# Altium footprint library PCB - CONNECTOR - FCI - FCI 06-381-6PIN.PCBLIB: 1 footprints
Each footprint in its own frame and in the unit in brackets; x right, y up, seen from the top. Pads: shape width x height; smd on the part's side, far side on the other; paste and mask are expansions set on the pad; w line width, h text height; cw(c..) or ccw(c..) is an arc to the next point about the centre after c.
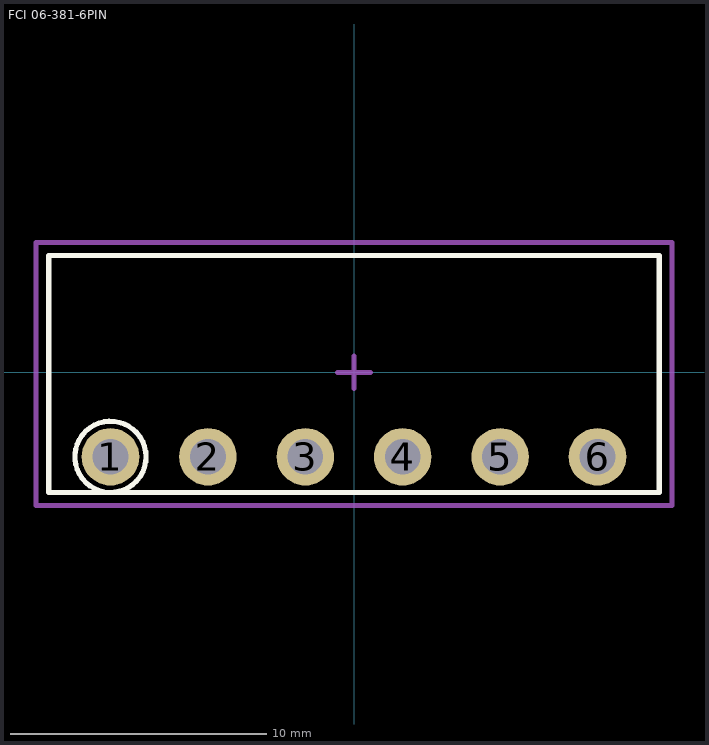
[diagram p0: the footprint, top view; thin cyan lines are the x and y axes]

## FCI 06-381-6PIN [mm] "FCI Pluggable Terminal Block"
height 7
pads (6):
  round 2.25 hole 1.4: 1(-9.525,-3.302) 2(-5.715,-3.302) 3(-1.905,-3.302) 4(1.905,-3.302) 5(5.715,-3.302) 6(9.525,-3.302)
Top Overlay:
  circle w0.2: c-9.525,-3.302 r1.393
  lines w0.2: -11.938,-4.699 11.938,-4.699 11.938,4.572 -11.938,4.572 -11.938,-4.699
Mechanical 15:
  lines w0.2: -0.635,0 0.635,0 ; 0,-0.635 0,0.635 ; -12.446,-5.207 12.446,-5.207 12.446,5.08 -12.446,5.08 -12.446,-5.207
3D body "FCI 06-381 6Pos.STEP": height 7.6, standoff -3.52, extent -12.025,-4.699 12.025,4.501